# EAGLE library part AD7740 (library analog-devices)
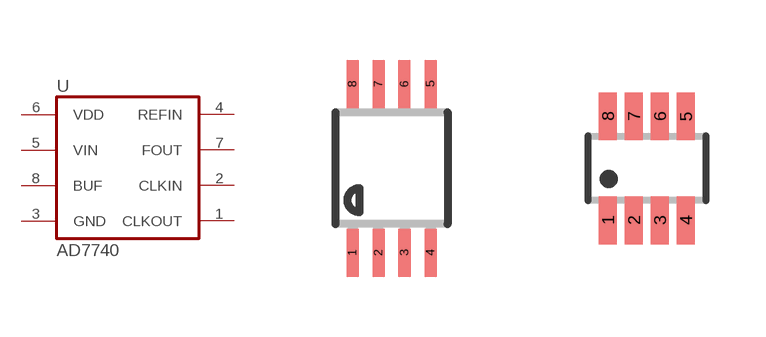
[diagram p62: symbol with the pads of MSOP08; footprints MSOP08, SOT23-8]

Designator prefix U

## AD7740RM  [MSOP08]
1  CLKOUT  out
2  CLKIN  in
3  GND  pwr
4  REFIN  in
5  VIN  in
6  VDD  pwr
7  FOUT  out
8  BUF  in

## AD7740RT  [SOT23-8]
1  BUF  in
2  FOUT  out
3  VDD  pwr
4  VIN  in
5  REFIN  in
6  GND  pwr
7  CLKIN  in
8  CLKOUT  out

## Footprint MSOP08 (pad centres in mm)
Mini Small Outline Package
smd 0.3 x 1.2: 1 -0.975,-2.113; 2 -0.325,-2.113; 3 0.325,-2.113; 4 0.975,-2.113; 5 0.975,2.112; 6 0.324,2.112; 7 -0.325,2.112; 8 -0.975,2.112

## Footprint SOT23-8 (pad centres in mm)
SOT-23 - DCN 0.65 mm pitch
smd 0.45 x 1.2: 1 -0.975,-1.3; 2 -0.325,-1.3; 3 0.325,-1.3; 4 0.975,-1.3; 5 0.975,1.3; 6 0.325,1.3; 7 -0.325,1.3; 8 -0.975,1.3